# Altium footprint library QFN-40.PcbLib: 1 footprints
Each footprint in its own frame and in the unit in brackets; x right, y up, seen from the top. Pads: shape width x height; smd on the part's side, far side on the other; paste and mask are expansions set on the pad; w line width, h text height; cw(c..) or ccw(c..) is an arc to the next point about the centre after c.
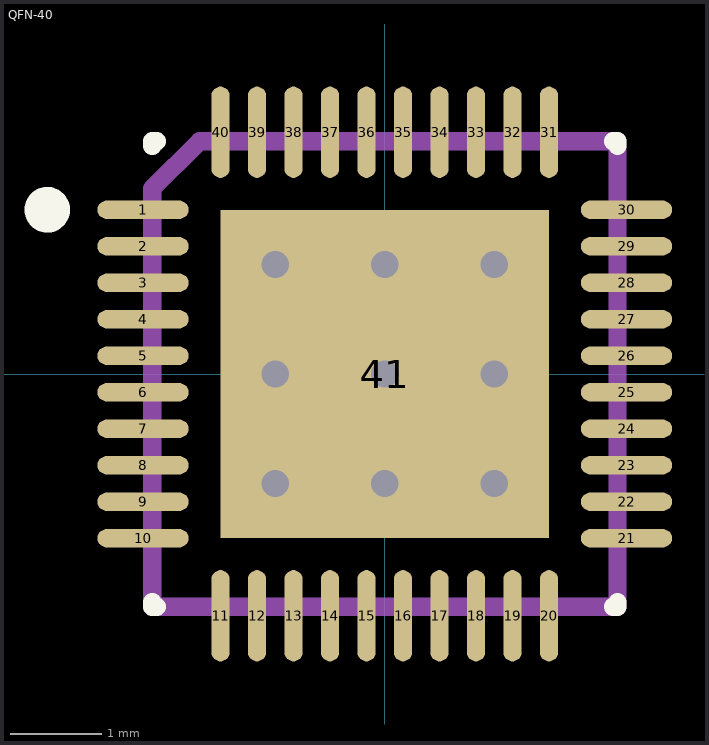
[diagram p0: the footprint, top view; thin cyan lines are the x and y axes]

## QFN-40 [mm] "QFN, 40-Leads, Body 5,1x5,1mm (max), Pitch 0,40mm, IPC Low Density"
height 0.8
pads (41):
  oval 1x0.2 smd: 1(-2.65,1.8) 2(-2.65,1.4) 3(-2.65,1) 4(-2.65,0.6) 5(-2.65,0.2) 6(-2.65,-0.2) 7(-2.65,-0.6) 8(-2.65,-1) 9(-2.65,-1.4) 10(-2.65,-1.8) 21(2.65,-1.8) 22(2.65,-1.4) 23(2.65,-1) 24(2.65,-0.6) 25(2.65,-0.2) 26(2.65,0.2) 27(2.65,0.6) 28(2.65,1) 29(2.65,1.4) 30(2.65,1.8)
  oval 0.2x1 smd: 11(-1.8,-2.65) 12(-1.4,-2.65) 13(-1,-2.65) 14(-0.6,-2.65) 15(-0.2,-2.65) 16(0.2,-2.65) 17(0.6,-2.65) 18(1,-2.65) 19(1.4,-2.65) 20(1.8,-2.65) 31(1.8,2.65) 32(1.4,2.65) 33(1,2.65) 34(0.6,2.65) 35(0.2,2.65) 36(-0.2,2.65) 37(-0.6,2.65) 38(-1,2.65) 39(-1.4,2.65) 40(-1.8,2.65)
  rect 3.6x3.6 smd: 41(0,0)
via 1.2,-1.2 diameter 0.8 hole 0.3
via 0,-1.2 diameter 0.8 hole 0.3
via -1.2,-1.2 diameter 0.8 hole 0.3
via 1.2,0 diameter 0.8 hole 0.3
via 0,0 diameter 0.8 hole 0.3
via -1.2,0 diameter 0.8 hole 0.3
via 1.2,1.2 diameter 0.8 hole 0.3
via 0,1.2 diameter 0.8 hole 0.3
via -1.2,1.2 diameter 0.8 hole 0.3
Top Overlay:
  circle w0.25: c-3.7,1.8 r0.125
  lines w0.2: -2.55,-2.5 -2.55,-2.55 -2.5,-2.55 ; -2.55,2.5 -2.55,2.55 -2.5,2.55 ; 2.5,-2.55 2.55,-2.55 2.55,-2.5 ; 2.5,2.55 2.55,2.55 2.55,2.5
Mechanical 13:
  lines w0.2: -2.55,-2.55 -2.55,2.032 -2.032,2.55 2.55,2.55 2.55,-2.55 -2.55,-2.55
  text ".Designator" at -1.143,0.381 h1.5
Mechanical 15:
  lines w0.2: -0.5,0 0.5,0 ; 0,-0.5 0,0.5
3D body: height 0.8, standoff 0.05, extent -2.55,-2.55 2.55,2.55